# Altium footprint library ON Semi Interface Line Transceiver.PcbLib: 40 footprints (part 3 of 3)
Each footprint in its own frame and in the unit in brackets; x right, y up, seen from the top. Pads: shape width x height; smd on the part's side, far side on the other; paste and mask are expansions set on the pad; w line width, h text height; cw(c..) or ccw(c..) is an arc to the next point about the centre after c.
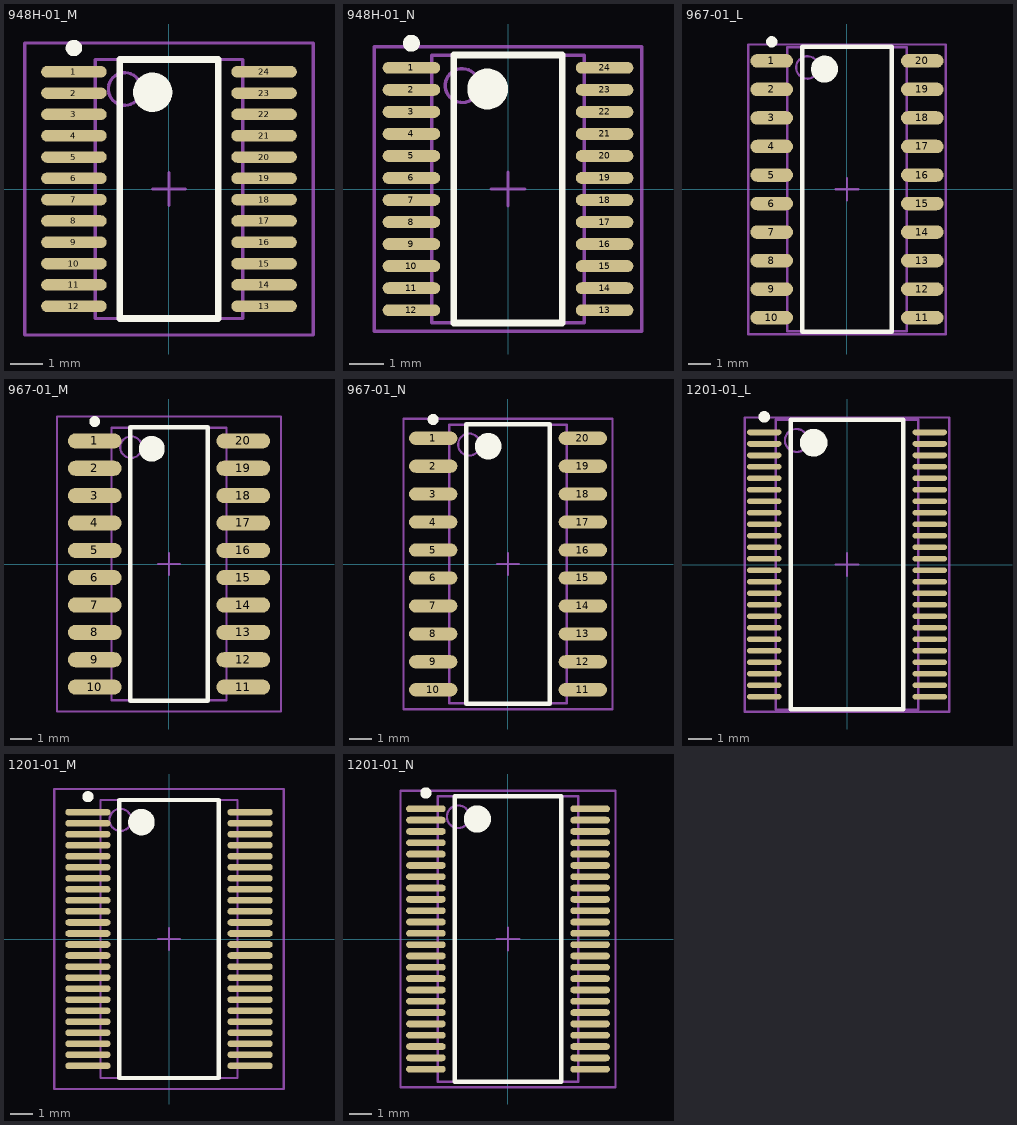
[diagram p2: the footprints below, top view; thin cyan lines are the x and y axes]

## 948H-01_M [mm] "TSOP, 24-Leads, Body 7.8x4.4mm, Pitch 0.65mm, IPC Low Density"
height 1.2
pads (24):
  oval 2x0.35 smd: 1(-2.9,3.575) 2(-2.9,2.925) 3(-2.9,2.275) 4(-2.9,1.625) 5(-2.9,0.975) 6(-2.9,0.325) 7(-2.9,-0.325) 8(-2.9,-0.975) 9(-2.9,-1.625) 10(-2.9,-2.275) 11(-2.9,-2.925) 12(-2.9,-3.575) 13(2.9,-3.575) 14(2.9,-2.925) 15(2.9,-2.275) 16(2.9,-1.625) 17(2.9,-0.975) 18(2.9,-0.325) 19(2.9,0.325) 20(2.9,0.975) 21(2.9,1.625) 22(2.9,2.275) 23(2.9,2.925) 24(2.9,3.575)
Top Overlay:
  circle w0.6: c-0.5,2.95 r0.3
  circle w0.25: c-2.9,4.3 r0.125
  lines w0.2: -1.5,-3.95 1.5,-3.95 1.5,3.95 -1.5,3.95 -1.5,-3.95
Mechanical 13:
  circle w0.1: c-1.35,3.05 r0.5
  lines w0.1: -2.25,-3.95 2.25,-3.95 2.25,3.95 -2.25,3.95 -2.25,-3.95
Mechanical 15:
  lines w0.1: -0.5,0 0.5,0 ; 0,-0.5 0,0.5 ; -4.4,-4.45 4.4,-4.45 4.4,4.45 -4.4,4.45 -4.4,-4.45
3D body: height 1.2, standoff 0, extent -2.25,-3.95 2.25,3.95

## 948H-01_N [mm] "TSOP, 24-Leads, Body 7.8x4.4mm, Pitch 0.65mm, IPC Medium Density"
height 1.2
pads (24):
  oval 1.7x0.35 smd: 1(-2.85,3.575) 2(-2.85,2.925) 3(-2.85,2.275) 4(-2.85,1.625) 5(-2.85,0.975) 6(-2.85,0.325) 7(-2.85,-0.325) 8(-2.85,-0.975) 9(-2.85,-1.625) 10(-2.85,-2.275) 11(-2.85,-2.925) 12(-2.85,-3.575) 13(2.85,-3.575) 14(2.85,-2.925) 15(2.85,-2.275) 16(2.85,-1.625) 17(2.85,-0.975) 18(2.85,-0.325) 19(2.85,0.325) 20(2.85,0.975) 21(2.85,1.625) 22(2.85,2.275) 23(2.85,2.925) 24(2.85,3.575)
Top Overlay:
  circle w0.25: c-2.85,4.3 r0.125
  circle w0.6: c-0.6,2.95 r0.3
  lines w0.2: -1.6,-3.95 -1.6,3.95 1.6,3.95 1.6,-3.95 -1.6,-3.95
Mechanical 13:
  circle w0.1: c-1.35,3.05 r0.5
  lines w0.1: -2.25,-3.95 -2.25,3.95 2.25,3.95 2.25,-3.95 -2.25,-3.95
Mechanical 15:
  lines w0.1: -0.5,0 0.5,0 ; 0,-0.5 0,0.5 ; -3.95,-4.2 -3.95,4.2 3.95,4.2 3.95,-4.2 -3.95,-4.2
3D body: height 1.2, standoff 0, extent -2.25,-3.95 2.25,3.95

## 967-01_L [mm] "SOP, 20-Leads, Body 12.6x5.3mm, Pitch 1.27mm, IPC High Density"
height 2.05
pads (20):
  oval 1.9x0.6 smd: 1(-3.35,5.715) 2(-3.35,4.445) 3(-3.35,3.175) 4(-3.35,1.905) 5(-3.35,0.635) 6(-3.35,-0.635) 7(-3.35,-1.905) 8(-3.35,-3.175) 9(-3.35,-4.445) 10(-3.35,-5.715) 11(3.35,-5.715) 12(3.35,-4.445) 13(3.35,-3.175) 14(3.35,-1.905) 15(3.35,-0.635) 16(3.35,0.635) 17(3.35,1.905) 18(3.35,3.175) 19(3.35,4.445) 20(3.35,5.715)
Top Overlay:
  circle w0.6: c-1,5.35 r0.3
  circle w0.25: c-3.35,6.565 r0.125
  lines w0.2: -2,-6.35 2,-6.35 2,6.35 -2,6.35 -2,-6.35
Mechanical 13:
  circle w0.1: c-1.765,5.425 r0.5
  lines w0.1: -2.665,-6.325 2.665,-6.325 2.665,6.325 -2.665,6.325 -2.665,-6.325
Mechanical 15:
  lines w0.1: -0.5,0 0.5,0 ; 0,-0.5 0,0.5 ; -4.4,-6.45 4.4,-6.45 4.4,6.45 -4.4,6.45 -4.4,-6.45
3D body: height 2.05, standoff 0, extent -2.665,-6.325 2.665,6.325

## 967-01_M [mm] "SOP, 20-Leads, Body 12.6x5.3mm, Pitch 1.27mm, IPC Low Density"
height 2.05
pads (20):
  oval 2.5x0.7 smd: 1(-3.45,5.715) 2(-3.45,4.445) 3(-3.45,3.175) 4(-3.45,1.905) 5(-3.45,0.635) 6(-3.45,-0.635) 7(-3.45,-1.905) 8(-3.45,-3.175) 9(-3.45,-4.445) 10(-3.45,-5.715) 11(3.45,-5.715) 12(3.45,-4.445) 13(3.45,-3.175) 14(3.45,-1.905) 15(3.45,-0.635) 16(3.45,0.635) 17(3.45,1.905) 18(3.45,3.175) 19(3.45,4.445) 20(3.45,5.715)
Top Overlay:
  circle w0.6: c-0.8,5.35 r0.3
  circle w0.25: c-3.45,6.615 r0.125
  lines w0.2: -1.8,-6.35 1.8,-6.35 1.8,6.35 -1.8,6.35 -1.8,-6.35
Mechanical 13:
  circle w0.1: c-1.765,5.425 r0.5
  lines w0.1: -2.665,-6.325 2.665,-6.325 2.665,6.325 -2.665,6.325 -2.665,-6.325
Mechanical 15:
  lines w0.1: -0.5,0 0.5,0 ; 0,-0.5 0,0.5 ; -5.2,-6.85 5.2,-6.85 5.2,6.85 -5.2,6.85 -5.2,-6.85
3D body: height 2.05, standoff 0, extent -2.665,-6.325 2.665,6.325

## 967-01_N [mm] "SOP, 20-Leads, Body 12.6x5.3mm, Pitch 1.27mm, IPC Medium Density"
height 2.05
pads (20):
  oval 2.2x0.6 smd: 1(-3.4,5.715) 2(-3.4,4.445) 3(-3.4,3.175) 4(-3.4,1.905) 5(-3.4,0.635) 6(-3.4,-0.635) 7(-3.4,-1.905) 8(-3.4,-3.175) 9(-3.4,-4.445) 10(-3.4,-5.715) 11(3.4,-5.715) 12(3.4,-4.445) 13(3.4,-3.175) 14(3.4,-1.905) 15(3.4,-0.635) 16(3.4,0.635) 17(3.4,1.905) 18(3.4,3.175) 19(3.4,4.445) 20(3.4,5.715)
Top Overlay:
  circle w0.25: c-3.4,6.565 r0.125
  circle w0.6: c-0.9,5.35 r0.3
  lines w0.2: -1.9,-6.35 -1.9,6.35 1.9,6.35 1.9,-6.35 -1.9,-6.35
Mechanical 13:
  circle w0.1: c-1.765,5.425 r0.5
  lines w0.1: -2.665,-6.325 -2.665,6.325 2.665,6.325 2.665,-6.325 -2.665,-6.325
Mechanical 15:
  lines w0.1: -0.5,0 0.5,0 ; 0,-0.5 0,0.5 ; -4.75,-6.6 -4.75,6.6 4.75,6.6 4.75,-6.6 -4.75,-6.6
3D body: height 2.05, standoff 0, extent -2.665,-6.325 2.665,6.325

## 1201-01_L [mm] "TSSOP, 48-Leads, Body 12.5x6.1mm, Pitch 0.5mm, IPC High Density"
height 1.1
pads (48):
  oval 1.5x0.25 smd: 1(-3.6,5.75) 2(-3.6,5.25) 3(-3.6,4.75) 4(-3.6,4.25) 5(-3.6,3.75) 6(-3.6,3.25) 7(-3.6,2.75) 8(-3.6,2.25) 9(-3.6,1.75) 10(-3.6,1.25) 11(-3.6,0.75) 12(-3.6,0.25) 13(-3.6,-0.25) 14(-3.6,-0.75) 15(-3.6,-1.25) 16(-3.6,-1.75) 17(-3.6,-2.25) 18(-3.6,-2.75) 19(-3.6,-3.25) 20(-3.6,-3.75) 21(-3.6,-4.25) 22(-3.6,-4.75) 23(-3.6,-5.25) 24(-3.6,-5.75) 25(3.6,-5.75) 26(3.6,-5.25) 27(3.6,-4.75) 28(3.6,-4.25) 29(3.6,-3.75) 30(3.6,-3.25) 31(3.6,-2.75) 32(3.6,-2.25) 33(3.6,-1.75) 34(3.6,-1.25) 35(3.6,-0.75) 36(3.6,-0.25) 37(3.6,0.25) 38(3.6,0.75) 39(3.6,1.25) 40(3.6,1.75) 41(3.6,2.25) 42(3.6,2.75) 43(3.6,3.25) 44(3.6,3.75) 45(3.6,4.25) 46(3.6,4.75) 47(3.6,5.25) 48(3.6,5.75)
Top Overlay:
  circle w0.25: c-3.6,6.425 r0.125
  circle w0.6: c-1.45,5.3 r0.3
  lines w0.2: -2.45,-6.3 -2.45,6.3 2.45,6.3 2.45,-6.3 -2.45,-6.3
Mechanical 13:
  circle w0.1: c-2.2,5.4 r0.5
  lines w0.1: -3.1,-6.3 -3.1,6.3 3.1,6.3 3.1,-6.3 -3.1,-6.3
Mechanical 15:
  lines w0.1: -0.5,0 0.5,0 ; 0,-0.5 0,0.5 ; -4.45,-6.4 -4.45,6.4 4.45,6.4 4.45,-6.4 -4.45,-6.4
3D body: height 1.1, standoff 0, extent -3.1,-6.3 3.1,6.3

## 1201-01_M [mm] "TSSOP, 48-Leads, Body 12.5x6.1mm, Pitch 0.5mm, IPC Low Density"
height 1.1
pads (48):
  oval 2.05x0.3 smd: 1(-3.675,5.75) 2(-3.675,5.25) 3(-3.675,4.75) 4(-3.675,4.25) 5(-3.675,3.75) 6(-3.675,3.25) 7(-3.675,2.75) 8(-3.675,2.25) 9(-3.675,1.75) 10(-3.675,1.25) 11(-3.675,0.75) 12(-3.675,0.25) 13(-3.675,-0.25) 14(-3.675,-0.75) 15(-3.675,-1.25) 16(-3.675,-1.75) 17(-3.675,-2.25) 18(-3.675,-2.75) 19(-3.675,-3.25) 20(-3.675,-3.75) 21(-3.675,-4.25) 22(-3.675,-4.75) 23(-3.675,-5.25) 24(-3.675,-5.75) 25(3.675,-5.75) 26(3.675,-5.25) 27(3.675,-4.75) 28(3.675,-4.25) 29(3.675,-3.75) 30(3.675,-3.25) 31(3.675,-2.75) 32(3.675,-2.25) 33(3.675,-1.75) 34(3.675,-1.25) 35(3.675,-0.75) 36(3.675,-0.25) 37(3.675,0.25) 38(3.675,0.75) 39(3.675,1.25) 40(3.675,1.75) 41(3.675,2.25) 42(3.675,2.75) 43(3.675,3.25) 44(3.675,3.75) 45(3.675,4.25) 46(3.675,4.75) 47(3.675,5.25) 48(3.675,5.75)
Top Overlay:
  circle w0.6: c-1.25,5.3 r0.3
  circle w0.25: c-3.675,6.45 r0.125
  lines w0.2: -2.25,-6.3 2.25,-6.3 2.25,6.3 -2.25,6.3 -2.25,-6.3
Mechanical 13:
  circle w0.1: c-2.2,5.4 r0.5
  lines w0.1: -3.1,-6.3 3.1,-6.3 3.1,6.3 -3.1,6.3 -3.1,-6.3
Mechanical 15:
  lines w0.1: -0.5,0 0.5,0 ; 0,-0.5 0,0.5 ; -5.2,-6.8 5.2,-6.8 5.2,6.8 -5.2,6.8 -5.2,-6.8
3D body: height 1.1, standoff 0, extent -3.1,-6.3 3.1,6.3

## 1201-01_N [mm] "TSSOP, 48-Leads, Body 12.5x6.1mm, Pitch 0.5mm, IPC Medium Density"
height 1.1
pads (48):
  oval 1.75x0.3 smd: 1(-3.625,5.75) 2(-3.625,5.25) 3(-3.625,4.75) 4(-3.625,4.25) 5(-3.625,3.75) 6(-3.625,3.25) 7(-3.625,2.75) 8(-3.625,2.25) 9(-3.625,1.75) 10(-3.625,1.25) 11(-3.625,0.75) 12(-3.625,0.25) 13(-3.625,-0.25) 14(-3.625,-0.75) 15(-3.625,-1.25) 16(-3.625,-1.75) 17(-3.625,-2.25) 18(-3.625,-2.75) 19(-3.625,-3.25) 20(-3.625,-3.75) 21(-3.625,-4.25) 22(-3.625,-4.75) 23(-3.625,-5.25) 24(-3.625,-5.75) 25(3.625,-5.75) 26(3.625,-5.25) 27(3.625,-4.75) 28(3.625,-4.25) 29(3.625,-3.75) 30(3.625,-3.25) 31(3.625,-2.75) 32(3.625,-2.25) 33(3.625,-1.75) 34(3.625,-1.25) 35(3.625,-0.75) 36(3.625,-0.25) 37(3.625,0.25) 38(3.625,0.75) 39(3.625,1.25) 40(3.625,1.75) 41(3.625,2.25) 42(3.625,2.75) 43(3.625,3.25) 44(3.625,3.75) 45(3.625,4.25) 46(3.625,4.75) 47(3.625,5.25) 48(3.625,5.75)
Top Overlay:
  circle w0.25: c-3.625,6.45 r0.125
  circle w0.6: c-1.35,5.3 r0.3
  lines w0.2: -2.35,-6.3 -2.35,6.3 2.35,6.3 2.35,-6.3 -2.35,-6.3
Mechanical 13:
  circle w0.1: c-2.2,5.4 r0.5
  lines w0.1: -3.1,-6.3 -3.1,6.3 3.1,6.3 3.1,-6.3 -3.1,-6.3
Mechanical 15:
  lines w0.1: -0.5,0 0.5,0 ; 0,-0.5 0,0.5 ; -4.75,-6.55 -4.75,6.55 4.75,6.55 4.75,-6.55 -4.75,-6.55
3D body: height 1.1, standoff 0, extent -3.1,-6.3 3.1,6.3